# Altium schematic symbol library WP-SMBU.SchLib: 22 symbols
Pins are listed as number, name and electrical type; pins without a type are passive.

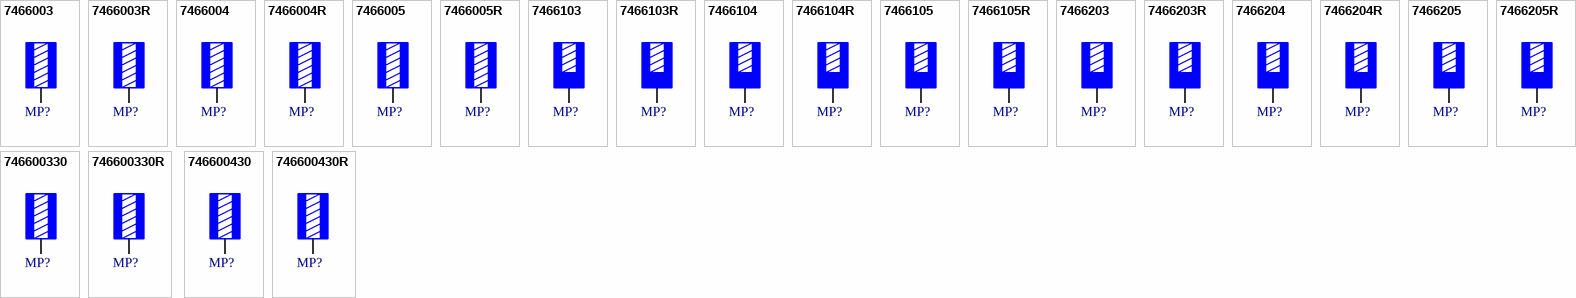
[diagram p0: symbols 7466003 to 746600430R]

## 7466003
designator MP?, comment M3 x 6mm  (value not drawn)
WP-SMBU SMT Internal through-hole thread, OD 7mm, M3 x 6mm, 50A; Manufacturer Part Number: 7466003; Manufacturer: Wurth Elektronik; Surface: Tin; ComponentLink1Description: Website Link; ComponentLink1URL: https://www.we-online.com/redexpert/article/7466003?ad; ComponentLink2Description: Datasheet Link; ComponentLink2URL: https://www.we-online.com/redexpert/spec/7466003?ad; Category: REDCUBE SMT; Match Code: WP-SMBU; Mount: SMT; Operating Temperature Max: 150°C; Operating Temperature Min: -55°C; Packaging: Bulk; Height: 5mm; Diameter: 7mm; Material: Brass; Outer Diameter: 7mm; Rated Current: 50A; Thread Length: 6mm; Thread Size: M3
footprint 7466003
pins: 1

## 7466003R
designator MP?, comment M3 x 6mm  (value not drawn)
WP-SMBU SMT Internal through-hole thread, OD 7mm, M3 x 6mm, 50A; Manufacturer Part Number: 7466003R; Manufacturer: Wurth Elektronik; Surface: Tin; ComponentLink1Description: Website Link; ComponentLink1URL: https://www.we-online.com/redexpert/article/7466003R?ad; ComponentLink2Description: Datasheet Link; ComponentLink2URL: https://www.we-online.com/redexpert/spec/7466003R?ad; Category: REDCUBE SMT; Match Code: WP-SMBU; Mount: SMT; Operating Temperature Max: 150°C; Operating Temperature Min: -55°C; Packaging: Tape and Reel; Height: 5mm; Diameter: 7mm; Material: Brass; Outer Diameter: 7mm; Rated Current: 50A; Thread Length: 6mm; Thread Size: M3
footprint 7466003R
pins: 1

## 7466004
designator MP?, comment M4 x 6mm  (value not drawn)
WP-SMBU SMT Internal through-hole thread, OD 7mm, M4 x 6mm, 50A; Manufacturer Part Number: 7466004; Manufacturer: Wurth Elektronik; Surface: Tin; ComponentLink1Description: Website Link; ComponentLink1URL: https://www.we-online.com/redexpert/article/7466004?ad; ComponentLink2Description: Datasheet Link; ComponentLink2URL: https://www.we-online.com/redexpert/spec/7466004?ad; Category: REDCUBE SMT; Match Code: WP-SMBU; Mount: SMT; Operating Temperature Max: 150°C; Operating Temperature Min: -55°C; Packaging: Bulk; Height: 5mm; Diameter: 7mm; Material: Brass; Outer Diameter: 7mm; Rated Current: 50A; Thread Length: 6mm; Thread Size: M4
footprint 7466004
pins: 1

## 7466004R
designator MP?, comment M4 x 6mm  (value not drawn)
WP-SMBU SMT Internal through-hole thread, OD 7mm, M4 x 6mm, 50A; Manufacturer Part Number: 7466004R; Manufacturer: Wurth Elektronik; Surface: Tin; ComponentLink1Description: Website Link; ComponentLink1URL: https://www.we-online.com/redexpert/article/7466004R?ad; ComponentLink2Description: Datasheet Link; ComponentLink2URL: https://www.we-online.com/redexpert/spec/7466004R?ad; Category: REDCUBE SMT; Match Code: WP-SMBU; Mount: SMT; Operating Temperature Max: 150°C; Operating Temperature Min: -55°C; Packaging: Tape and Reel; Height: 5mm; Diameter: 7mm; Material: Brass; Outer Diameter: 7mm; Rated Current: 50A; Thread Length: 6mm; Thread Size: M4
footprint 7466004R
pins: 1

## 7466005
designator MP?, comment M5 x 6mm  (value not drawn)
WP-SMBU SMT Internal through-hole thread, OD 9mm, M5 x 6mm, 70A; Manufacturer Part Number: 7466005; Manufacturer: Wurth Elektronik; Surface: Tin; ComponentLink1Description: Website Link; ComponentLink1URL: https://www.we-online.com/redexpert/article/7466005?ad; ComponentLink2Description: Datasheet Link; ComponentLink2URL: https://www.we-online.com/redexpert/spec/7466005?ad; Category: REDCUBE SMT; Match Code: WP-SMBU; Mount: SMT; Operating Temperature Max: 150°C; Operating Temperature Min: -55°C; Packaging: Bulk; Height: 5mm; Diameter: 9mm; Material: Brass; Outer Diameter: 9mm; Rated Current: 70A; Thread Length: 6mm; Thread Size: M5
footprint 7466005
pins: 1

## 7466005R
designator MP?, comment M5 x 6mm  (value not drawn)
WP-SMBU SMT Internal through-hole thread, OD 9mm, M5 x 6mm, 70A; Manufacturer Part Number: 7466005R; Manufacturer: Wurth Elektronik; Surface: Tin; ComponentLink1Description: Website Link; ComponentLink1URL: https://www.we-online.com/redexpert/article/7466005R?ad; ComponentLink2Description: Datasheet Link; ComponentLink2URL: https://www.we-online.com/redexpert/spec/7466005R?ad; Category: REDCUBE SMT; Match Code: WP-SMBU; Mount: SMT; Operating Temperature Max: 150°C; Operating Temperature Min: -55°C; Packaging: Tape and Reel; Height: 5mm; Diameter: 9mm; Material: Brass; Outer Diameter: 9mm; Rated Current: 70A; Thread Length: 6mm; Thread Size: M5
footprint 7466005R
pins: 1

## 7466103
designator MP?, comment M3 x 4mm  (value not drawn)
WP-SMBU SMT Internal blind-hole thread with pins, OD 7mm, M3 x 4mm, 50A; Manufacturer Part Number: 7466103; Manufacturer: Wurth Elektronik; Surface: Tin; ComponentLink1Description: Website Link; ComponentLink1URL: https://www.we-online.com/redexpert/article/7466103?ad; ComponentLink2Description: Datasheet Link; ComponentLink2URL: https://www.we-online.com/redexpert/spec/7466103?ad; Category: REDCUBE SMT; Match Code: WP-SMBU; Mount: SMT; Operating Temperature Max: 150°C; Operating Temperature Min: -55°C; Packaging: Bulk; Height: 7mm; Diameter: 7mm; Material: Brass; Outer Diameter: 7mm; Rated Current: 50A; Thread Length: 4mm; Thread Size: M3
footprint 7466103
pins: 1

## 7466103R
designator MP?, comment M3 x 4mm  (value not drawn)
WP-SMBU SMT Internal blind-hole thread with pins, OD 7mm, M3 x 4mm, 50A; Manufacturer Part Number: 7466103R; Manufacturer: Wurth Elektronik; Surface: Tin; ComponentLink1Description: Website Link; ComponentLink1URL: https://www.we-online.com/redexpert/article/7466103R?ad; ComponentLink2Description: Datasheet Link; ComponentLink2URL: https://www.we-online.com/redexpert/spec/7466103R?ad; Category: REDCUBE SMT; Match Code: WP-SMBU; Mount: SMT; Operating Temperature Max: 150°C; Operating Temperature Min: -55°C; Packaging: Tape and Reel; Height: 7mm; Diameter: 7mm; Material: Brass; Outer Diameter: 7mm; Rated Current: 50A; Thread Length: 4mm; Thread Size: M3
footprint 7466103R
pins: 1

## 7466104
designator MP?, comment M4 x 4mm  (value not drawn)
WP-SMBU SMT Internal blind-hole thread with pins, OD 7mm, M4 x 4mm, 50A; Manufacturer Part Number: 7466104; Manufacturer: Wurth Elektronik; Surface: Tin; ComponentLink1Description: Website Link; ComponentLink1URL: https://www.we-online.com/redexpert/article/7466104?ad; ComponentLink2Description: Datasheet Link; ComponentLink2URL: https://www.we-online.com/redexpert/spec/7466104?ad; Category: REDCUBE SMT; Match Code: WP-SMBU; Mount: SMT; Operating Temperature Max: 150°C; Operating Temperature Min: -55°C; Packaging: Bulk; Height: 7mm; Diameter: 7mm; Material: Brass; Outer Diameter: 7mm; Rated Current: 50A; Thread Length: 4mm; Thread Size: M4
footprint 7466104
pins: 1

## 7466104R
designator MP?, comment M4 x 4mm  (value not drawn)
WP-SMBU SMT Internal blind-hole thread with pins, OD 7mm, M4 x 4mm, 50A; Manufacturer Part Number: 7466104R; Manufacturer: Wurth Elektronik; Surface: Tin; ComponentLink1Description: Website Link; ComponentLink1URL: https://www.we-online.com/redexpert/article/7466104R?ad; ComponentLink2Description: Datasheet Link; ComponentLink2URL: https://www.we-online.com/redexpert/spec/7466104R?ad; Category: REDCUBE SMT; Match Code: WP-SMBU; Mount: SMT; Operating Temperature Max: 150°C; Operating Temperature Min: -55°C; Packaging: Tape and Reel; Height: 7mm; Diameter: 7mm; Material: Brass; Outer Diameter: 7mm; Rated Current: 50A; Thread Length: 4mm; Thread Size: M4
footprint 7466104R
pins: 1

## 7466105
designator MP?, comment M5 x 4mm  (value not drawn)
WP-SMBU SMT Internal blind-hole thread with pins, OD 9mm, M5 x 4mm, 70A; Manufacturer Part Number: 7466105; Manufacturer: Wurth Elektronik; Surface: Tin; ComponentLink1Description: Website Link; ComponentLink1URL: https://www.we-online.com/redexpert/article/7466105?ad; ComponentLink2Description: Datasheet Link; ComponentLink2URL: https://www.we-online.com/redexpert/spec/7466105?ad; Category: REDCUBE SMT; Match Code: WP-SMBU; Mount: SMT; Operating Temperature Max: 150°C; Operating Temperature Min: -55°C; Packaging: Bulk; Height: 7mm; Diameter: 9mm; Material: Brass; Outer Diameter: 9mm; Rated Current: 70A; Thread Length: 4mm; Thread Size: M5
footprint 7466105
pins: 1

## 7466105R
designator MP?, comment M5 x 4mm  (value not drawn)
WP-SMBU SMT Internal blind-hole thread with pins, OD 9mm, M5 x 4mm, 70A; Manufacturer Part Number: 7466105R; Manufacturer: Wurth Elektronik; Surface: Tin; ComponentLink1Description: Website Link; ComponentLink1URL: https://www.we-online.com/redexpert/article/7466105R?ad; ComponentLink2Description: Datasheet Link; ComponentLink2URL: https://www.we-online.com/redexpert/spec/7466105R?ad; Category: REDCUBE SMT; Match Code: WP-SMBU; Mount: SMT; Operating Temperature Max: 150°C; Operating Temperature Min: -55°C; Packaging: Tape and Reel; Height: 7mm; Diameter: 9mm; Material: Brass; Outer Diameter: 9mm; Rated Current: 70A; Thread Length: 4mm; Thread Size: M5
footprint 7466105R
pins: 1

## 7466203
designator MP?, comment M3 x 4mm  (value not drawn)
WP-SMBU SMT Internal blind-hole thread, OD 7mm, M3 x 4mm, 50A; Manufacturer Part Number: 7466203; Manufacturer: Wurth Elektronik; Surface: Tin; ComponentLink1Description: Website Link; ComponentLink1URL: https://www.we-online.com/redexpert/article/7466203?ad; ComponentLink2Description: Datasheet Link; ComponentLink2URL: https://www.we-online.com/redexpert/spec/7466203?ad; Category: REDCUBE SMT; Match Code: WP-SMBU; Mount: SMT; Operating Temperature Max: 150°C; Operating Temperature Min: -55°C; Packaging: Bulk; Height: 7mm; Diameter: 7mm; Material: Brass; Outer Diameter: 7mm; Rated Current: 50A; Thread Length: 4mm; Thread Size: M3
footprint 7466203
pins: 1

## 7466203R
designator MP?, comment M3 x 4mm  (value not drawn)
WP-SMBU SMT Internal blind-hole thread, OD 7mm, M3 x 4mm, 50A; Manufacturer Part Number: 7466203R; Manufacturer: Wurth Elektronik; Surface: Tin; ComponentLink1Description: Website Link; ComponentLink1URL: https://www.we-online.com/redexpert/article/7466203R?ad; ComponentLink2Description: Datasheet Link; ComponentLink2URL: https://www.we-online.com/redexpert/spec/7466203R?ad; Category: REDCUBE SMT; Match Code: WP-SMBU; Mount: SMT; Operating Temperature Max: 150°C; Operating Temperature Min: -55°C; Packaging: Tape and Reel; Height: 7mm; Diameter: 7mm; Material: Brass; Outer Diameter: 7mm; Rated Current: 50A; Thread Length: 4mm; Thread Size: M3
footprint 7466203R
pins: 1

## 7466204
designator MP?, comment M4 x 4mm  (value not drawn)
WP-SMBU SMT Internal blind-hole thread, OD 7mm, M4 x 4mm, 50A; Manufacturer Part Number: 7466204; Manufacturer: Wurth Elektronik; Surface: Tin; ComponentLink1Description: Website Link; ComponentLink1URL: https://www.we-online.com/redexpert/article/7466204?ad; ComponentLink2Description: Datasheet Link; ComponentLink2URL: https://www.we-online.com/redexpert/spec/7466204?ad; Category: REDCUBE SMT; Match Code: WP-SMBU; Mount: SMT; Operating Temperature Max: 150°C; Operating Temperature Min: -55°C; Packaging: Bulk; Height: 7mm; Diameter: 7mm; Material: Brass; Outer Diameter: 7mm; Rated Current: 50A; Thread Length: 4mm; Thread Size: M4
footprint 7466204
pins: 1

## 7466204R
designator MP?, comment M4 x 4mm  (value not drawn)
WP-SMBU SMT Internal blind-hole thread, OD 7mm, M4 x 4mm, 50A; Manufacturer Part Number: 7466204R; Manufacturer: Wurth Elektronik; Surface: Tin; ComponentLink1Description: Website Link; ComponentLink1URL: https://www.we-online.com/redexpert/article/7466204R?ad; ComponentLink2Description: Datasheet Link; ComponentLink2URL: https://www.we-online.com/redexpert/spec/7466204R?ad; Category: REDCUBE SMT; Match Code: WP-SMBU; Mount: SMT; Operating Temperature Max: 150°C; Operating Temperature Min: -55°C; Packaging: Tape and Reel; Height: 7mm; Diameter: 7mm; Material: Brass; Outer Diameter: 7mm; Rated Current: 50A; Thread Length: 4mm; Thread Size: M4
footprint 7466204R
pins: 1

## 7466205
designator MP?, comment M5 x 4mm  (value not drawn)
WP-SMBU SMT Internal blind-hole thread, OD 9mm, M5 x 4mm, 70A; Manufacturer Part Number: 7466205; Manufacturer: Wurth Elektronik; Surface: Tin; ComponentLink1Description: Website Link; ComponentLink1URL: https://www.we-online.com/redexpert/article/7466205?ad; ComponentLink2Description: Datasheet Link; ComponentLink2URL: https://www.we-online.com/redexpert/spec/7466205?ad; Category: REDCUBE SMT; Match Code: WP-SMBU; Mount: SMT; Operating Temperature Max: 150°C; Operating Temperature Min: -55°C; Packaging: Bulk; Height: 7mm; Diameter: 9mm; Material: Brass; Outer Diameter: 9mm; Rated Current: 70A; Thread Length: 4mm; Thread Size: M5
footprint 7466205
pins: 1

## 7466205R
designator MP?, comment M5 x 4mm  (value not drawn)
WP-SMBU SMT Internal blind-hole thread, OD 9mm, M5 x 4mm, 70A; Manufacturer Part Number: 7466205R; Manufacturer: Wurth Elektronik; Surface: Tin; ComponentLink1Description: Website Link; ComponentLink1URL: https://www.we-online.com/redexpert/article/7466205R?ad; ComponentLink2Description: Datasheet Link; ComponentLink2URL: https://www.we-online.com/redexpert/spec/7466205R?ad; Category: REDCUBE SMT; Match Code: WP-SMBU; Mount: SMT; Operating Temperature Max: 150°C; Operating Temperature Min: -55°C; Packaging: Tape and Reel; Height: 7mm; Diameter: 9mm; Material: Brass; Outer Diameter: 9mm; Rated Current: 70A; Thread Length: 4mm; Thread Size: M5
footprint 7466205R
pins: 1

## 746600330
designator MP?, comment M3 x 4mm  (value not drawn)
WP-SMBU SMT Internal through-hole thread, OD 7mm, M3 x 4mm, 50A; Manufacturer Part Number: 746600330; Manufacturer: Wurth Elektronik; Surface: Tin; ComponentLink1Description: Website Link; ComponentLink1URL: https://www.we-online.com/redexpert/article/746600330?ad; ComponentLink2Description: Datasheet Link; ComponentLink2URL: https://www.we-online.com/redexpert/spec/746600330?ad; Category: REDCUBE SMT; Match Code: WP-SMBU; Mount: SMT; Operating Temperature Max: 150°C; Operating Temperature Min: -55°C; Packaging: Bulk; Height: 3mm; Diameter: 7mm; Material: Brass; Outer Diameter: 7mm; Rated Current: 50A; Thread Length: 4mm; Thread Size: M3
footprint 746600330
pins: 1

## 746600330R
designator MP?, comment M3 x 4mm  (value not drawn)
WP-SMBU SMT Internal through-hole thread, OD 7mm, M3 x 4mm, 50A; Manufacturer Part Number: 746600330R; Manufacturer: Wurth Elektronik; Surface: Tin; ComponentLink1Description: Website Link; ComponentLink1URL: https://www.we-online.com/redexpert/article/746600330R?ad; ComponentLink2Description: Datasheet Link; ComponentLink2URL: https://www.we-online.com/redexpert/spec/746600330R?ad; Category: REDCUBE SMT; Match Code: WP-SMBU; Mount: SMT; Operating Temperature Max: 150°C; Operating Temperature Min: -55°C; Packaging: Tape and Reel; Height: 3mm; Diameter: 7mm; Material: Brass; Outer Diameter: 7mm; Rated Current: 50A; Thread Length: 4mm; Thread Size: M3
footprint 746600330R
pins: 1

## 746600430
designator MP?, comment M4 x 4mm  (value not drawn)
WP-SMBU SMT Internal through-hole thread, OD 7mm, M4 x 4mm, 50A; Manufacturer Part Number: 746600430; Manufacturer: Wurth Elektronik; Surface: Tin; ComponentLink1Description: Website Link; ComponentLink1URL: https://www.we-online.com/redexpert/article/746600430?ad; ComponentLink2Description: Datasheet Link; ComponentLink2URL: https://www.we-online.com/redexpert/spec/746600430?ad; Category: REDCUBE SMT; Match Code: WP-SMBU; Mount: SMT; Operating Temperature Max: 150°C; Operating Temperature Min: -55°C; Packaging: Bulk; Height: 3mm; Diameter: 7mm; Material: Brass; Outer Diameter: 7mm; Rated Current: 50A; Thread Length: 4mm; Thread Size: M4
footprint 746600430
pins: 1

## 746600430R
designator MP?, comment M4 x 4mm  (value not drawn)
WP-SMBU SMT Internal through-hole thread, OD 7mm, M4 x 4mm, 50A; Manufacturer Part Number: 746600430R; Manufacturer: Wurth Elektronik; Surface: Tin; ComponentLink1Description: Website Link; ComponentLink1URL: https://www.we-online.com/redexpert/article/746600430R?ad; ComponentLink2Description: Datasheet Link; ComponentLink2URL: https://www.we-online.com/redexpert/spec/746600430R?ad; Category: REDCUBE SMT; Match Code: WP-SMBU; Mount: SMT; Operating Temperature Max: 150°C; Operating Temperature Min: -55°C; Packaging: Tape and Reel; Height: 3mm; Diameter: 7mm; Material: Brass; Outer Diameter: 7mm; Rated Current: 50A; Thread Length: 4mm; Thread Size: M4
footprint 746600430R
pins: 1